# Altium schematic symbol library SCH - OPAMP - TI LMV601MG-NOPB.SCHLIB: 1 symbol
Pins are listed as number, name and electrical type; pins without a type are passive.

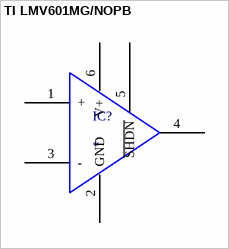
[diagram p0: symbol TI LMV601MG/NOPB]

## TI LMV601MG/NOPB
designator IC?
pins: 1 +, 2 GND (power), 3 -, 4 OUT, 5 ~{SHDN}, 6 V+ (power)